# Altium footprint library MSP430_GPRS.PcbLib: 2 footprints
Each footprint in its own frame and in the unit in brackets; x right, y up, seen from the top. Pads: shape width x height; smd on the part's side, far side on the other; paste and mask are expansions set on the pad; w line width, h text height; cw(c..) or ccw(c..) is an arc to the next point about the centre after c.
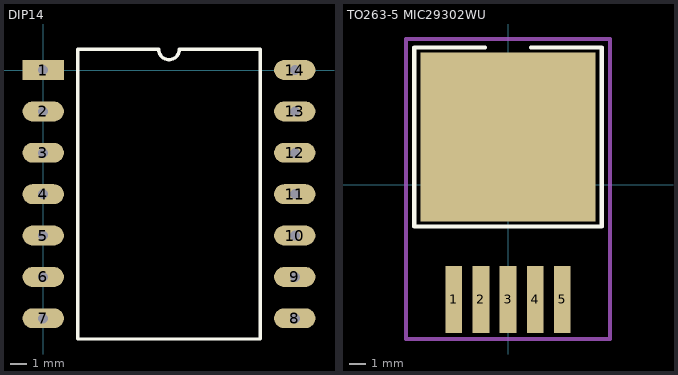
[diagram p0: the footprints below, top view; thin cyan lines are the x and y axes]

## DIP14 [mm]
pads (14):
  rect 2.5x1.2 hole 0.6: 1(0,0)
  oval 2.5x1.2 hole 0.6: 2(0,-2.5) 3(0,-5) 4(0,-7.5) 5(0,-10) 6(0,-12.5) 7(0,-15) 8(15.2,-15) 9(15.2,-12.5) 10(15.2,-10) 11(15.2,-7.5) 12(15.2,-5) 13(15.2,-2.5) 14(15.2,0)
Top Overlay:
  lines w0.2: 2.085,-16.25 2.085,1.25 6.975,1.25 ccw(c7.6,1.25) 8.225,1.25 13.115,1.25 13.115,-16.25 2.085,-16.25

## TO263-5 MIC29302WU [mil] "263 PMIC-稳压器-线性"
pads (6):
  rect 40x160 smd: 1(-130,-275) 2(-65,-275) 3(0,-275) 4(65,-275) 5(130,-275)
  rect 420x405 smd: ""(0,115)
Top Overlay:
  circle w20: c0,250 r10
  lines w10: -55,330 -225,330 -225,-100 225,-100 225,330 55,330
Mechanical 15:
  lines w10: -245,-370 -245,350 245,350 245,-370 -245,-370
3D body "TO263-5 MIC29302WU.STEP": height 177.8, standoff -1.33, extent -202.75,-297.08 202.76,302.45